# EAGLE library part ADAFRUIT-8CH-LVLSHIFTER (library dotson)
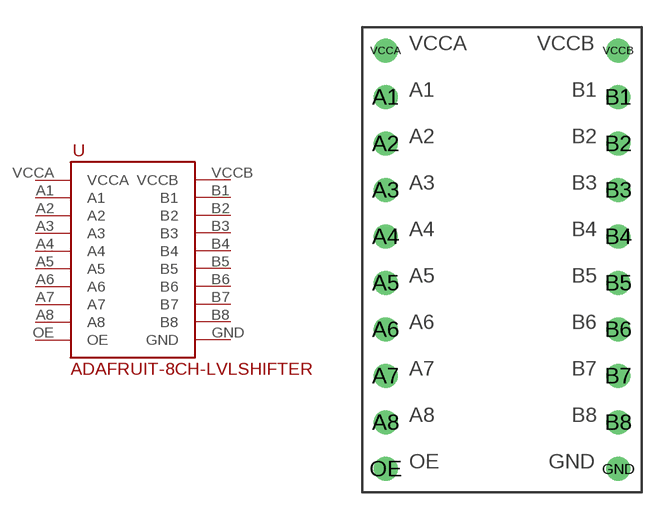
[diagram p2: symbol with the pads of ADAFRUIT-8CH-LVLSHIFTER; footprint ADAFRUIT-8CH-LVLSHIFTER]

Designator prefix -

## ADAFRUIT-8CH-LVLSHIFTER  [ADAFRUIT-8CH-LVLSHIFTER]
A1  A1
A2  A2
A3  A3
A4  A4
A5  A5
A6  A6
A7  A7
A8  A8
B1  B1
B2  B2
B3  B3
B4  B4
B5  B5
B6  B6
B7  B7
B8  B8
GND  GND
OE  OE
VCCA  VCCA
VCCB  VCCB

## Footprint ADAFRUIT-8CH-LVLSHIFTER (pad centres in mm)
drill 0.8: A1 1.27,21.59; A2 1.27,19.05; A3 1.27,16.51; A4 1.27,13.97; A5 1.27,11.43; A6 1.27,8.89; A7 1.27,6.35; A8 1.27,3.81; B1 13.97,21.59; B2 13.97,19.05; B3 13.97,16.51; B4 13.97,13.97; B5 13.97,11.43; B6 13.97,8.89; B7 13.97,6.35; B8 13.97,3.81; GND 13.97,1.27; OE 1.27,1.27; VCCA 1.27,24.13; VCCB 13.97,24.13